# EAGLE library part NE555 (library Public)
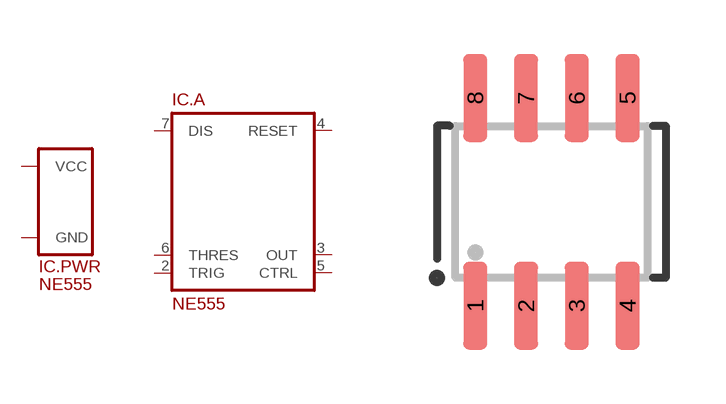
[diagram p10: symbol with the pads of SO8; footprint SO8]

Designator prefix IC; gates .PWR=SUPPLY_VCC/GND .A=NE555

## NE555(SO8)  [SO8]
1  .PWR:GND
2  .A:TRIG
3  .A:OUT
4  .A:RESET
5  .A:CTRL
6  .A:THRES
7  .A:DIS
8  .PWR:VCC

## Footprint SO8 (pad centres in mm)
smd 0.6 x 2.2: 1 -1.905,-2.6; 2 -0.635,-2.6; 3 0.635,-2.6; 4 1.905,-2.6; 5 1.905,2.6; 6 0.635,2.6; 7 -0.635,2.6; 8 -1.905,2.6